# Altium schematic symbol library Diode_bridge.SchLib: 2 symbols
Pins are listed as number, name and electrical type; pins without a type are passive.

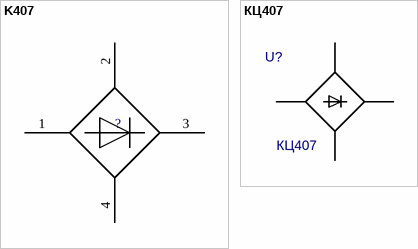
[diagram p0: symbols K407 to КЦ407]

## K407
designator ?  (value not drawn)
Value: *
footprint DIOD
pins: 1 0, 2 0, 3 0, 4 0

## КЦ407
designator U?
Value: *
pins: 1, 2, 3, 4